# Altium integrated library Atmel Industry Standard SPLD.IntLib: 198 symbols (part 3 of 6)
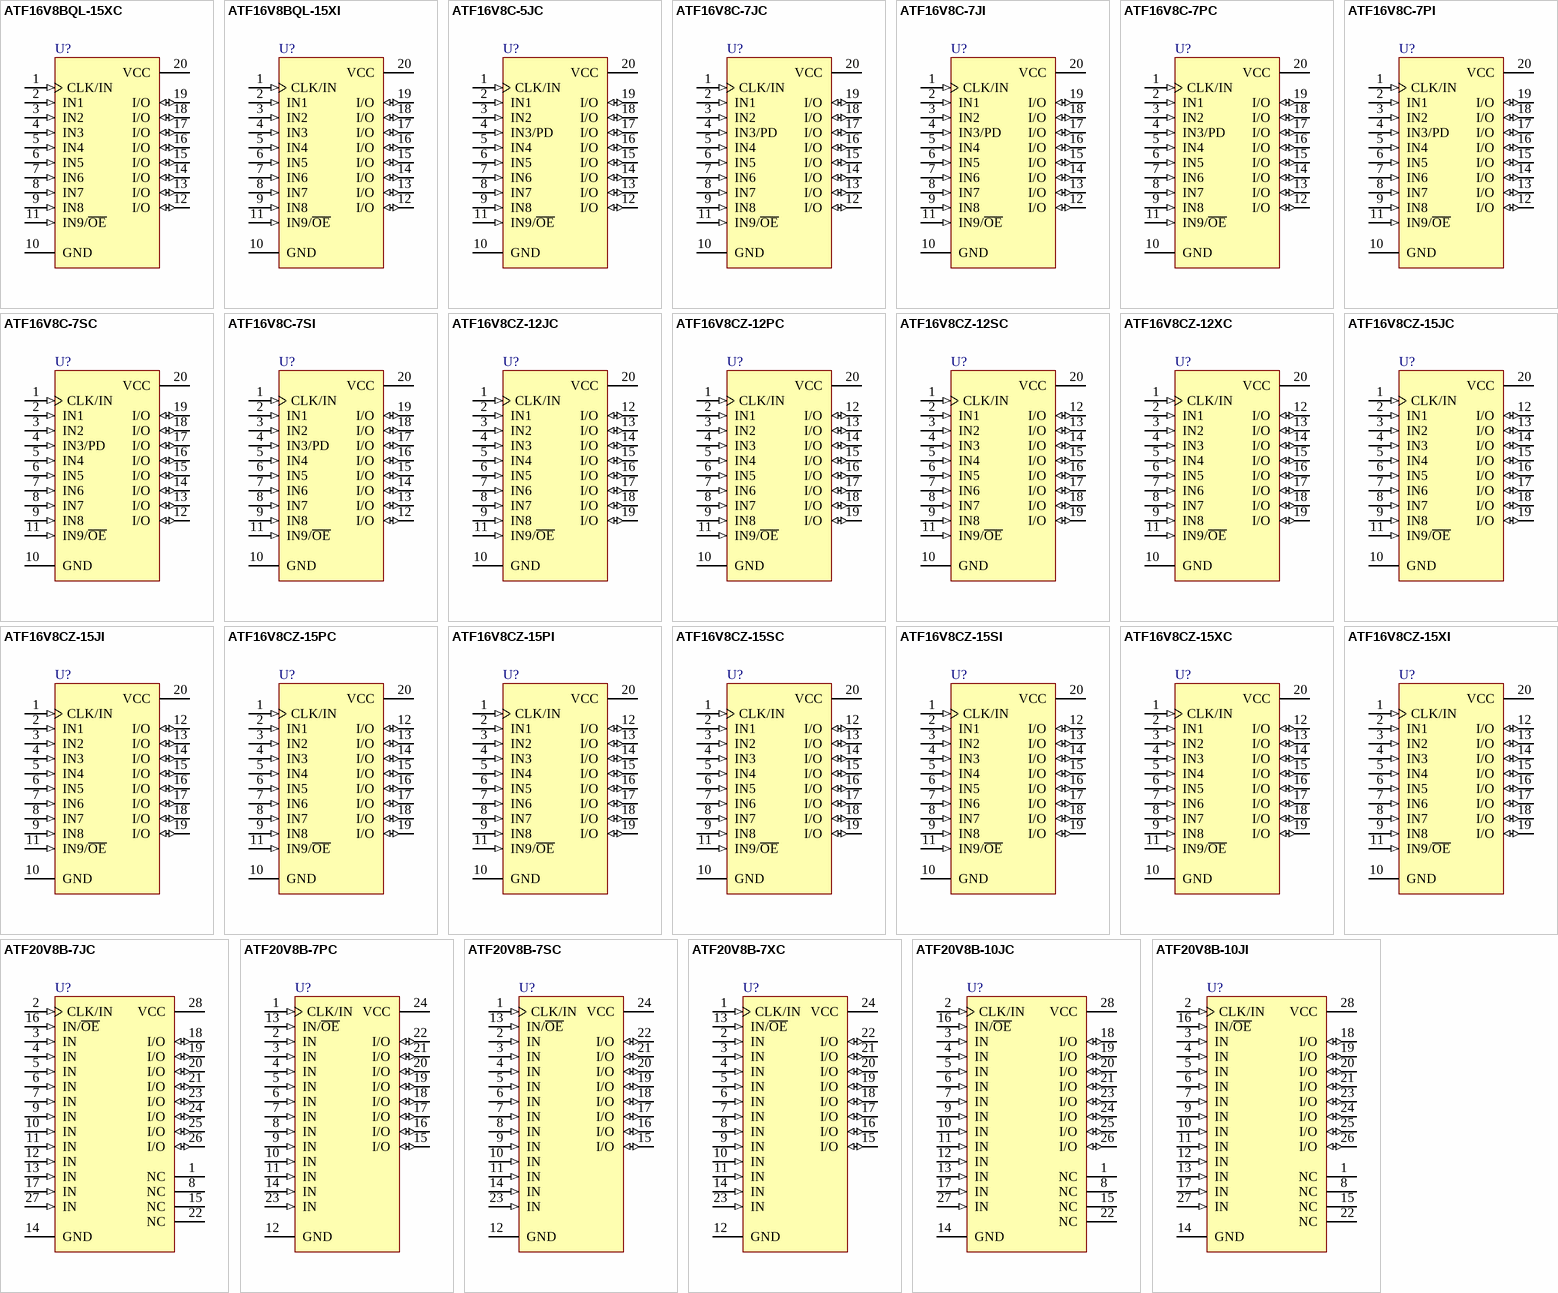
[diagram p9: symbols ATF16V8BQL-15XC to ATF20V8B-10JI]

## ATF16V8CZ-12XC
designator U?
ATF16V8CZ 5.0V Industry Standard SPLD, 20-lead TSSOP, Speed Grade 12, Commercial Grade; Published: 15-Apr-2002; LatestRevisionDate: 04-Mar-2005; LatestRevisionNote: Stylized 3D Model Added.; DatasheetVersion: Rev. 0453F-08/99; PackageVersion: revC, Oct-2003; PackageReference: 20X; Publisher: Altium Limited; PackageDescription: 20-lead, 4.4 mm Body Width, Plastic Thin Shrink Small Outline Package (TSSOP); Supplier 1: Digi-Key; Supplier Part Number 1: ATF16V8CZ-12XC-ND; Supplier 2: Mouser; Supplier Part Number 2: 556-ATF16V8CZ-12XC; ComponentLink1Description: Manufacturer Link; ComponentLink1URL: http://www.atmel.com/products/pld/default.asp; ComponentLink2Description: Datasheet; ComponentLink2URL: http://www.atmel.com/dyn/resources/prod_documents/doc0453.pdf; ComponentLink3Description: Atmel.com Home; ComponentLink3URL: http://www.atmel.com
footprint 20X_N (TSOP, 20-Leads, Body 6.5x4.4mm, Pitch 0.65mm, IPC Medium Density)
footprint 20X_L (TSOP, 20-Leads, Body 6.5x4.4mm, Pitch 0.65mm, IPC High Density)
footprint 20X_M (TSOP, 20-Leads, Body 6.5x4.4mm, Pitch 0.65mm, IPC Low Density)
pins: 1 CLK/IN (in), 2 IN1 (in), 3 IN2 (in), 4 IN3 (in), 5 IN4 (in), 6 IN5 (in), 7 IN6 (in), 8 IN7 (in), 9 IN8 (in), 10 GND (power), 11 IN9/~{OE} (in), 12 I/O (io), 13 I/O (io), 14 I/O (io), 15 I/O (io), 16 I/O (io), 17 I/O (io), 18 I/O (io), 19 I/O (io), 20 VCC (power)

## ATF16V8CZ-15JC
designator U?
ATF16V8CZ 5.0V Industry Standard SPLD, 20-lead PLCC, Speed Grade 15, Commercial Grade; Published: 15-Apr-2002; LatestRevisionDate: 13-Apr-2006; LatestRevisionNote: IPC-7351 Footprint Added.; DatasheetVersion: Rev. 0453F-08/99; PackageVersion: Aug-1999; PackageReference: 20J; Publisher: Altium Limited; PackageDescription: 20-Pin Leaded Chip Carrier 1.27 mm Pitch; Supplier 1: Digi-Key; Supplier Part Number 1: ATF16V8CZ-15JC-ND; Supplier 2: Mouser; Supplier Part Number 2: 556-ATF16V8CZ-15JC; Code_JEDEC: MS-018-AA; Code_IPC: PLCC-20; ComponentLink1Description: Manufacturer Link; ComponentLink1URL: http://www.atmel.com/products/pld/default.asp; ComponentLink2Description: Datasheet; ComponentLink2URL: http://www.atmel.com/dyn/resources/prod_documents/doc0453.pdf; ComponentLink3Description: Atmel.com Home; ComponentLink3URL: http://www.atmel.com
footprint 20J_N (Leaded Chip Carrier, 20-Leads, Body 9x9mm, Pitch 1.27mm, IPC Medium Density)
footprint 20J_L (Leaded Chip Carrier, 20-Leads, Body 9x9mm, Pitch 1.27mm, IPC High Density)
footprint 20J_M (Leaded Chip Carrier, 20-Leads, Body 9x9mm, Pitch 1.27mm, IPC Low Density)
pins: 1 CLK/IN (in), 2 IN1 (in), 3 IN2 (in), 4 IN3 (in), 5 IN4 (in), 6 IN5 (in), 7 IN6 (in), 8 IN7 (in), 9 IN8 (in), 10 GND (power), 11 IN9/~{OE} (in), 12 I/O (io), 13 I/O (io), 14 I/O (io), 15 I/O (io), 16 I/O (io), 17 I/O (io), 18 I/O (io), 19 I/O (io), 20 VCC (power)

## ATF16V8CZ-15JI
designator U?
ATF16V8CZ 5.0V Industry Standard SPLD, 20-lead PLCC, Speed Grade 15, Industrial Grade; Published: 15-Apr-2002; LatestRevisionDate: 13-Apr-2006; LatestRevisionNote: IPC-7351 Footprint Added.; DatasheetVersion: Rev. 0453F-08/99; PackageVersion: Aug-1999; PackageReference: 20J; Publisher: Altium Limited; PackageDescription: 20-Pin Leaded Chip Carrier 1.27 mm Pitch; Supplier 1: Digi-Key; Supplier Part Number 1: ATF16V8CZ-15JI-ND; Supplier 2: Mouser; Supplier Part Number 2: 556-ATF16V8CZ-15JI; Code_JEDEC: MS-018-AA; Code_IPC: PLCC-20; ComponentLink1Description: Manufacturer Link; ComponentLink1URL: http://www.atmel.com/products/pld/default.asp; ComponentLink2Description: Datasheet; ComponentLink2URL: http://www.atmel.com/dyn/resources/prod_documents/doc0453.pdf; ComponentLink3Description: Atmel.com Home; ComponentLink3URL: http://www.atmel.com
footprint 20J_N (Leaded Chip Carrier, 20-Leads, Body 9x9mm, Pitch 1.27mm, IPC Medium Density)
footprint 20J_L (Leaded Chip Carrier, 20-Leads, Body 9x9mm, Pitch 1.27mm, IPC High Density)
footprint 20J_M (Leaded Chip Carrier, 20-Leads, Body 9x9mm, Pitch 1.27mm, IPC Low Density)
pins: 1 CLK/IN (in), 2 IN1 (in), 3 IN2 (in), 4 IN3 (in), 5 IN4 (in), 6 IN5 (in), 7 IN6 (in), 8 IN7 (in), 9 IN8 (in), 10 GND (power), 11 IN9/~{OE} (in), 12 I/O (io), 13 I/O (io), 14 I/O (io), 15 I/O (io), 16 I/O (io), 17 I/O (io), 18 I/O (io), 19 I/O (io), 20 VCC (power)

## ATF16V8CZ-15PC
designator U?
ATF16V8CZ 5.0V Industry Standard SPLD, 20-lead PDIP, Speed Grade 15, Commercial Grade; Published: 15-Apr-2002; LatestRevisionDate: 04-Mar-2005; LatestRevisionNote: Stylized 3D Model Added.; DatasheetVersion: Rev. 0453F-08/99; PackageVersion: revC, Jan-2004; PackageReference: 20P3; Publisher: Altium Limited; PackageDescription: 20-lead (0.300"/7.62mm Wide) Plastic Dual Inline Package (PDIP); Supplier 1: Digi-Key; Supplier Part Number 1: ATF16V8CZ-15PC-ND; Supplier 2: Mouser; Supplier Part Number 2: 556-ATF16V8CZ15PC; Code_JEDEC: MS-001-AD; ComponentLink1Description: Manufacturer Link; ComponentLink1URL: http://www.atmel.com/products/pld/default.asp; ComponentLink2Description: Datasheet; ComponentLink2URL: http://www.atmel.com/dyn/resources/prod_documents/doc0453.pdf; ComponentLink3Description: Atmel.com Home; ComponentLink3URL: http://www.atmel.com
footprint 20P3 (DIP, 20-Leads, Row Spacing 7.62mm, Pitch 2.54mm, Body 25.9x6.61mm)
pins: 1 CLK/IN (in), 2 IN1 (in), 3 IN2 (in), 4 IN3 (in), 5 IN4 (in), 6 IN5 (in), 7 IN6 (in), 8 IN7 (in), 9 IN8 (in), 10 GND (power), 11 IN9/~{OE} (in), 12 I/O (io), 13 I/O (io), 14 I/O (io), 15 I/O (io), 16 I/O (io), 17 I/O (io), 18 I/O (io), 19 I/O (io), 20 VCC (power)

## ATF16V8CZ-15PI
designator U?
ATF16V8CZ 5.0V Industry Standard SPLD, 20-lead PDIP, Speed Grade 15, Industrial Grade; Published: 15-Apr-2002; LatestRevisionDate: 04-Mar-2005; LatestRevisionNote: Stylized 3D Model Added.; DatasheetVersion: Rev. 0453F-08/99; PackageVersion: revC, Jan-2004; PackageReference: 20P3; Publisher: Altium Limited; PackageDescription: 20-lead (0.300"/7.62mm Wide) Plastic Dual Inline Package (PDIP); Supplier 1: Digi-Key; Supplier Part Number 1: ATF16V8CZ-15PI-ND; Supplier 2: Mouser; Supplier Part Number 2: 556-ATF16V8CZ-15PI; Code_JEDEC: MS-001-AD; ComponentLink1Description: Manufacturer Link; ComponentLink1URL: http://www.atmel.com/products/pld/default.asp; ComponentLink2Description: Datasheet; ComponentLink2URL: http://www.atmel.com/dyn/resources/prod_documents/doc0453.pdf; ComponentLink3Description: Atmel.com Home; ComponentLink3URL: http://www.atmel.com
footprint 20P3 (DIP, 20-Leads, Row Spacing 7.62mm, Pitch 2.54mm, Body 25.9x6.61mm)
pins: 1 CLK/IN (in), 2 IN1 (in), 3 IN2 (in), 4 IN3 (in), 5 IN4 (in), 6 IN5 (in), 7 IN6 (in), 8 IN7 (in), 9 IN8 (in), 10 GND (power), 11 IN9/~{OE} (in), 12 I/O (io), 13 I/O (io), 14 I/O (io), 15 I/O (io), 16 I/O (io), 17 I/O (io), 18 I/O (io), 19 I/O (io), 20 VCC (power)

## ATF16V8CZ-15SC
designator U?
ATF16V8CZ 5.0V Industry Standard SPLD, 20-lead SOIC, Speed Grade 15, Commercial Grade; Published: 15-Apr-2002; LatestRevisionDate: 13-Apr-2006; LatestRevisionNote: IPC-7351 Footprint Added.; DatasheetVersion: Rev. 0453F-08/99; PackageVersion: revA, Jan-2002; PackageReference: 20S; Publisher: Altium Limited; PackageDescription: 20-lead, 0.300" Wide Body, Plastic Gull Wing Small Outline Package (SOIC); Supplier 1: Digi-Key; Supplier Part Number 1: ATF16V8CZ-15SC-ND; Supplier 2: Mouser; Supplier Part Number 2: 556-AF16V8CZ15SC; Code_JEDEC: MS-013-AC; Code_IPC: SOIC127P1030-20; ComponentLink1Description: Manufacturer Link; ComponentLink1URL: http://www.atmel.com/products/pld/default.asp; ComponentLink2Description: Datasheet; ComponentLink2URL: http://www.atmel.com/dyn/resources/prod_documents/doc0453.pdf; ComponentLink3Description: Atmel.com Home; ComponentLink3URL: http://www.atmel.com
footprint 20S_N (SOIC, 20-Leads, Body 12.8x7.5mm, Pitch 1.27mm, IPC Medium Density)
footprint 20S_L (SOIC, 20-Leads, Body 12.8x7.5mm, Pitch 1.27mm, IPC High Density)
footprint 20S_M (SOIC, 20-Leads, Body 12.8x7.5mm, Pitch 1.27mm, IPC Low Density)
pins: 1 CLK/IN (in), 2 IN1 (in), 3 IN2 (in), 4 IN3 (in), 5 IN4 (in), 6 IN5 (in), 7 IN6 (in), 8 IN7 (in), 9 IN8 (in), 10 GND (power), 11 IN9/~{OE} (in), 12 I/O (io), 13 I/O (io), 14 I/O (io), 15 I/O (io), 16 I/O (io), 17 I/O (io), 18 I/O (io), 19 I/O (io), 20 VCC (power)

## ATF16V8CZ-15SI
designator U?
ATF16V8CZ 5.0V Industry Standard SPLD, 20-lead SOIC, Speed Grade 15, Industrial Grade; Published: 15-Apr-2002; LatestRevisionDate: 13-Apr-2006; LatestRevisionNote: IPC-7351 Footprint Added.; DatasheetVersion: Rev. 0453F-08/99; PackageVersion: revA, Jan-2002; PackageReference: 20S; Publisher: Altium Limited; PackageDescription: 20-lead, 0.300" Wide Body, Plastic Gull Wing Small Outline Package (SOIC); Supplier 1: Digi-Key; Supplier Part Number 1: ATF16V8CZ-15SI-ND; Supplier 2: Mouser; Supplier Part Number 2: 556-ATF16V8CZ-15SI; Code_JEDEC: MS-013-AC; Code_IPC: SOIC127P1030-20; ComponentLink1Description: Manufacturer Link; ComponentLink1URL: http://www.atmel.com/products/pld/default.asp; ComponentLink2Description: Datasheet; ComponentLink2URL: http://www.atmel.com/dyn/resources/prod_documents/doc0453.pdf; ComponentLink3Description: Atmel.com Home; ComponentLink3URL: http://www.atmel.com
footprint 20S_N (SOIC, 20-Leads, Body 12.8x7.5mm, Pitch 1.27mm, IPC Medium Density)
footprint 20S_L (SOIC, 20-Leads, Body 12.8x7.5mm, Pitch 1.27mm, IPC High Density)
footprint 20S_M (SOIC, 20-Leads, Body 12.8x7.5mm, Pitch 1.27mm, IPC Low Density)
pins: 1 CLK/IN (in), 2 IN1 (in), 3 IN2 (in), 4 IN3 (in), 5 IN4 (in), 6 IN5 (in), 7 IN6 (in), 8 IN7 (in), 9 IN8 (in), 10 GND (power), 11 IN9/~{OE} (in), 12 I/O (io), 13 I/O (io), 14 I/O (io), 15 I/O (io), 16 I/O (io), 17 I/O (io), 18 I/O (io), 19 I/O (io), 20 VCC (power)

## ATF16V8CZ-15XC
designator U?
ATF16V8CZ 5.0V Industry Standard SPLD, 20-lead TSSOP, Speed Grade 15, Commercial Grade; Published: 15-Apr-2002; LatestRevisionDate: 04-Mar-2005; LatestRevisionNote: Stylized 3D Model Added.; DatasheetVersion: Rev. 0453F-08/99; PackageVersion: revC, Oct-2003; PackageReference: 20X; Publisher: Altium Limited; PackageDescription: 20-lead, 4.4 mm Body Width, Plastic Thin Shrink Small Outline Package (TSSOP); Supplier 1: Digi-Key; Supplier Part Number 1: ATF16V8CZ-15XC-ND; Supplier 2: Mouser; Supplier Part Number 2: 556-ATF16V8CZ-15XC; ComponentLink1Description: Manufacturer Link; ComponentLink1URL: http://www.atmel.com/products/pld/default.asp; ComponentLink2Description: Datasheet; ComponentLink2URL: http://www.atmel.com/dyn/resources/prod_documents/doc0453.pdf; ComponentLink3Description: Atmel.com Home; ComponentLink3URL: http://www.atmel.com
footprint 20X_N (TSOP, 20-Leads, Body 6.5x4.4mm, Pitch 0.65mm, IPC Medium Density)
footprint 20X_L (TSOP, 20-Leads, Body 6.5x4.4mm, Pitch 0.65mm, IPC High Density)
footprint 20X_M (TSOP, 20-Leads, Body 6.5x4.4mm, Pitch 0.65mm, IPC Low Density)
pins: 1 CLK/IN (in), 2 IN1 (in), 3 IN2 (in), 4 IN3 (in), 5 IN4 (in), 6 IN5 (in), 7 IN6 (in), 8 IN7 (in), 9 IN8 (in), 10 GND (power), 11 IN9/~{OE} (in), 12 I/O (io), 13 I/O (io), 14 I/O (io), 15 I/O (io), 16 I/O (io), 17 I/O (io), 18 I/O (io), 19 I/O (io), 20 VCC (power)

## ATF16V8CZ-15XI
designator U?
ATF16V8CZ 5.0V Industry Standard SPLD, 20-lead TSSOP, Speed Grade 15, Industrial Grade; Published: 15-Apr-2002; LatestRevisionDate: 04-Mar-2005; LatestRevisionNote: Stylized 3D Model Added.; DatasheetVersion: Rev. 0453F-08/99; PackageVersion: revC, Oct-2003; PackageReference: 20X; Publisher: Altium Limited; PackageDescription: 20-lead, 4.4 mm Body Width, Plastic Thin Shrink Small Outline Package (TSSOP); ComponentLink1Description: Manufacturer Link; ComponentLink1URL: http://www.atmel.com/products/pld/default.asp; ComponentLink2Description: Datasheet; ComponentLink2URL: http://www.atmel.com/dyn/resources/prod_documents/doc0453.pdf; ComponentLink3Description: Atmel.com Home; ComponentLink3URL: http://www.atmel.com
footprint 20X_N (TSOP, 20-Leads, Body 6.5x4.4mm, Pitch 0.65mm, IPC Medium Density)
footprint 20X_L (TSOP, 20-Leads, Body 6.5x4.4mm, Pitch 0.65mm, IPC High Density)
footprint 20X_M (TSOP, 20-Leads, Body 6.5x4.4mm, Pitch 0.65mm, IPC Low Density)
pins: 1 CLK/IN (in), 2 IN1 (in), 3 IN2 (in), 4 IN3 (in), 5 IN4 (in), 6 IN5 (in), 7 IN6 (in), 8 IN7 (in), 9 IN8 (in), 10 GND (power), 11 IN9/~{OE} (in), 12 I/O (io), 13 I/O (io), 14 I/O (io), 15 I/O (io), 16 I/O (io), 17 I/O (io), 18 I/O (io), 19 I/O (io), 20 VCC (power)

## ATF20V8B-7JC
designator U?
ATF20V8B 5.0V Industry Standard SPLD, 28-lead PLCC, Speed Grade 7.5, Commercial Grade; Note: Pins 1, 8, 15 and 22 are not internally connected.; Published: 24-Nov-2000; LatestRevisionDate: 13-Apr-2006; LatestRevisionNote: IPC-7351 Footprint Added.; DatasheetVersion: Rev. 0407G-06/99; PackageVersion: 1993; PackageReference: 28J; Publisher: Altium Limited; PackageDescription: 28-Pin Leaded Chip Carrier 1.27 mm Pitch; Supplier 1: Digi-Key; Supplier Part Number 1: ATF20V8B-7JC-ND; Supplier 2: Mouser; Supplier Part Number 2: 556-ATF20V8B-7JC; Code_JEDEC: MS-018-AB; Code_IPC: PLCC-28; ComponentLink1Description: Manufacturer Link; ComponentLink1URL: http://www.atmel.com/products/pld/default.asp; ComponentLink2Description: Datasheet; ComponentLink2URL: http://www.atmel.com/dyn/resources/prod_documents/DOC0407.PDF; ComponentLink3Description: Atmel.com Home; ComponentLink3URL: http://www.atmel.com
footprint 28J_N (Leaded Chip Carrier, 28-Leads, Body 11.5x11.5mm, Pitch 1.27mm, IPC Medium Density)
footprint 28J_L (Leaded Chip Carrier, 28-Leads, Body 11.5x11.5mm, Pitch 1.27mm, IPC High Density)
footprint 28J_M (Leaded Chip Carrier, 28-Leads, Body 11.5x11.5mm, Pitch 1.27mm, IPC Low Density)
pins: 1 NC, 2 CLK/IN (in), 3 IN (in), 4 IN (in), 5 IN (in), 6 IN (in), 7 IN (in), 8 NC, 9 IN (in), 10 IN (in), 11 IN (in), 12 IN (in), 13 IN (in), 14 GND (power), 15 NC, 16 IN/~{OE} (in), 17 IN (in), 18 I/O (io), 19 I/O (io), 20 I/O (io), 21 I/O (io), 22 NC, 23 I/O (io), 24 I/O (io), 25 I/O (io), 26 I/O (io), 27 IN (in), 28 VCC (power)

## ATF20V8B-7PC
designator U?
ATF20V8B 5.0V Industry Standard SPLD, 24-lead PDIP, Speed Grade 7.5, Commercial Grade; Published: 24-Nov-2000; LatestRevisionDate: 04-Mar-2005; LatestRevisionNote: Stylized 3D Model Added.; DatasheetVersion: Rev. 0407G-06/99; PackageVersion: 1993; PackageReference: 24P3; Publisher: Altium Limited; PackageDescription: DIP, 24-Pin, Row Spacing 7.62 mm, Pitch 2.54 mm; Supplier 1: Digi-Key; Supplier Part Number 1: ATF20V8B-7PC-ND; Supplier 2: Mouser; Supplier Part Number 2: 556-AF20V8B7PC; Code_JEDEC: MS-001-AF; ComponentLink1Description: Manufacturer Link; ComponentLink1URL: http://www.atmel.com/products/pld/default.asp; ComponentLink2Description: Datasheet; ComponentLink2URL: http://www.atmel.com/dyn/resources/prod_documents/DOC0407.PDF; ComponentLink3Description: Atmel.com Home; ComponentLink3URL: http://www.atmel.com
footprint 24P3 (DIP, 24-Leads, Row Spacing 7.62mm, Pitch 2.54mm, Body 32x6.56mm)
pins: 1 CLK/IN (in), 2 IN (in), 3 IN (in), 4 IN (in), 5 IN (in), 6 IN (in), 7 IN (in), 8 IN (in), 9 IN (in), 10 IN (in), 11 IN (in), 12 GND (power), 13 IN/~{OE} (in), 14 IN (in), 15 I/O (io), 16 I/O (io), 17 I/O (io), 18 I/O (io), 19 I/O (io), 20 I/O (io), 21 I/O (io), 22 I/O (io), 23 IN (in), 24 VCC (power)

## ATF20V8B-7SC
designator U?
ATF20V8B 5.0V Industry Standard SPLD, 24-lead SOIC, Speed Grade 7.5, Commercial Grade; Published: 24-Nov-2000; LatestRevisionDate: 13-Apr-2006; LatestRevisionNote: IPC-7351 Footprint Added.; DatasheetVersion: Rev. 0407G-06/99; PackageVersion: 1993; PackageReference: 24S; Publisher: Altium Limited; PackageDescription: 24-Pin Small Outline Integrated Circuit 1.27 mm Pitch; Supplier 1: Digi-Key; Supplier Part Number 1: ATF20V8B-7SC-ND; Supplier 2: Mouser; Supplier Part Number 2: 556-AF20V8B7SC; ComponentLink1Description: Manufacturer Link; ComponentLink1URL: http://www.atmel.com/products/pld/default.asp; ComponentLink2Description: Datasheet; ComponentLink2URL: http://www.atmel.com/dyn/resources/prod_documents/DOC0407.PDF; ComponentLink3Description: Atmel.com Home; ComponentLink3URL: http://www.atmel.com
footprint 24S_N (SOIC, 24-Leads, Body 15.4x7.5mm, Pitch 1.27mm, IPC Medium Density)
footprint 24S_L (SOIC, 24-Leads, Body 15.4x7.5mm, Pitch 1.27mm, IPC High Density)
footprint 24S_M (SOIC, 24-Leads, Body 15.4x7.5mm, Pitch 1.27mm, IPC Low Density)
pins: 1 CLK/IN (in), 2 IN (in), 3 IN (in), 4 IN (in), 5 IN (in), 6 IN (in), 7 IN (in), 8 IN (in), 9 IN (in), 10 IN (in), 11 IN (in), 12 GND (power), 13 IN/~{OE} (in), 14 IN (in), 15 I/O (io), 16 I/O (io), 17 I/O (io), 18 I/O (io), 19 I/O (io), 20 I/O (io), 21 I/O (io), 22 I/O (io), 23 IN (in), 24 VCC (power)

## ATF20V8B-7XC
designator U?
ATF20V8B 5.0V Industry Standard SPLD, 24-lead TSSOP, Speed Grade 7.5, Commercial Grade; Published: 17-Dec-2003; LatestRevisionDate: 04-Mar-2005; LatestRevisionNote: Stylized 3D Model Added.; DatasheetVersion: Rev. 0407G-06/99; PackageVersion: revA, Apr-2001; PackageReference: 24X; Publisher: Altium Limited; PackageDescription: 24-Pin Thin Small Outline Package 0.65 mm Pitch; ComponentLink1Description: Manufacturer Link; ComponentLink1URL: http://www.atmel.com/products/pld/default.asp; ComponentLink2Description: Datasheet; ComponentLink2URL: http://www.atmel.com/dyn/resources/prod_documents/DOC0407.PDF; ComponentLink3Description: Atmel.com Home; ComponentLink3URL: http://www.atmel.com
footprint 24X_N (TSOP, 24-Leads, Body 7.8x4.4mm, Pitch 0.65mm, IPC Medium Density)
footprint 24X_L (TSOP, 24-Leads, Body 7.8x4.4mm, Pitch 0.65mm, IPC High Density)
footprint 24X_M (TSOP, 24-Leads, Body 7.8x4.4mm, Pitch 0.65mm, IPC Low Density)
pins: 1 CLK/IN (in), 2 IN (in), 3 IN (in), 4 IN (in), 5 IN (in), 6 IN (in), 7 IN (in), 8 IN (in), 9 IN (in), 10 IN (in), 11 IN (in), 12 GND (power), 13 IN/~{OE} (in), 14 IN (in), 15 I/O (io), 16 I/O (io), 17 I/O (io), 18 I/O (io), 19 I/O (io), 20 I/O (io), 21 I/O (io), 22 I/O (io), 23 IN (in), 24 VCC (power)

## ATF20V8B-10JC
designator U?
ATF20V8B 5.0V Industry Standard SPLD, 28-lead PLCC, Speed Grade 10, Commercial Grade; Note: Pins 1, 8, 15 and 22 are not internally connected.; Published: 24-Nov-2000; LatestRevisionDate: 13-Apr-2006; LatestRevisionNote: IPC-7351 Footprint Added.; DatasheetVersion: Rev. 0407G-06/99; PackageVersion: 1993; PackageReference: 28J; Publisher: Altium Limited; PackageDescription: 28-Pin Leaded Chip Carrier 1.27 mm Pitch; Supplier 1: Digi-Key; Supplier Part Number 1: ATF20V8B-10JC-ND; Supplier 2: Mouser; Supplier Part Number 2: 556-ATF20V8B-10JC; Code_JEDEC: MS-018-AB; Code_IPC: PLCC-28; ComponentLink1Description: Manufacturer Link; ComponentLink1URL: http://www.atmel.com/products/pld/default.asp; ComponentLink2Description: Datasheet; ComponentLink2URL: http://www.atmel.com/dyn/resources/prod_documents/DOC0407.PDF; ComponentLink3Description: Atmel.com Home; ComponentLink3URL: http://www.atmel.com
footprint 28J_N (Leaded Chip Carrier, 28-Leads, Body 11.5x11.5mm, Pitch 1.27mm, IPC Medium Density)
footprint 28J_L (Leaded Chip Carrier, 28-Leads, Body 11.5x11.5mm, Pitch 1.27mm, IPC High Density)
footprint 28J_M (Leaded Chip Carrier, 28-Leads, Body 11.5x11.5mm, Pitch 1.27mm, IPC Low Density)
pins: 1 NC, 2 CLK/IN (in), 3 IN (in), 4 IN (in), 5 IN (in), 6 IN (in), 7 IN (in), 8 NC, 9 IN (in), 10 IN (in), 11 IN (in), 12 IN (in), 13 IN (in), 14 GND (power), 15 NC, 16 IN/~{OE} (in), 17 IN (in), 18 I/O (io), 19 I/O (io), 20 I/O (io), 21 I/O (io), 22 NC, 23 I/O (io), 24 I/O (io), 25 I/O (io), 26 I/O (io), 27 IN (in), 28 VCC (power)

## ATF20V8B-10JI
designator U?
ATF20V8B 5.0V Industry Standard SPLD, 28-lead PLCC, Speed Grade 10, Industrial Grade; Note: Pins 1, 8, 15 and 22 are not internally connected.; Published: 24-Nov-2000; LatestRevisionDate: 13-Apr-2006; LatestRevisionNote: IPC-7351 Footprint Added.; DatasheetVersion: Rev. 0407G-06/99; PackageVersion: 1993; PackageReference: 28J; Publisher: Altium Limited; PackageDescription: 28-Pin Leaded Chip Carrier 1.27 mm Pitch; Supplier 1: Digi-Key; Supplier Part Number 1: ATF20V8B-10JI-ND; Supplier 2: Mouser; Supplier Part Number 2: 556-ATF20V8B-10JI; Code_JEDEC: MS-018-AB; Code_IPC: PLCC-28; ComponentLink1Description: Manufacturer Link; ComponentLink1URL: http://www.atmel.com/products/pld/default.asp; ComponentLink2Description: Datasheet; ComponentLink2URL: http://www.atmel.com/dyn/resources/prod_documents/DOC0407.PDF; ComponentLink3Description: Atmel.com Home; ComponentLink3URL: http://www.atmel.com
footprint 28J_N (Leaded Chip Carrier, 28-Leads, Body 11.5x11.5mm, Pitch 1.27mm, IPC Medium Density)
footprint 28J_L (Leaded Chip Carrier, 28-Leads, Body 11.5x11.5mm, Pitch 1.27mm, IPC High Density)
footprint 28J_M (Leaded Chip Carrier, 28-Leads, Body 11.5x11.5mm, Pitch 1.27mm, IPC Low Density)
pins: 1 NC, 2 CLK/IN (in), 3 IN (in), 4 IN (in), 5 IN (in), 6 IN (in), 7 IN (in), 8 NC, 9 IN (in), 10 IN (in), 11 IN (in), 12 IN (in), 13 IN (in), 14 GND (power), 15 NC, 16 IN/~{OE} (in), 17 IN (in), 18 I/O (io), 19 I/O (io), 20 I/O (io), 21 I/O (io), 22 NC, 23 I/O (io), 24 I/O (io), 25 I/O (io), 26 I/O (io), 27 IN (in), 28 VCC (power)

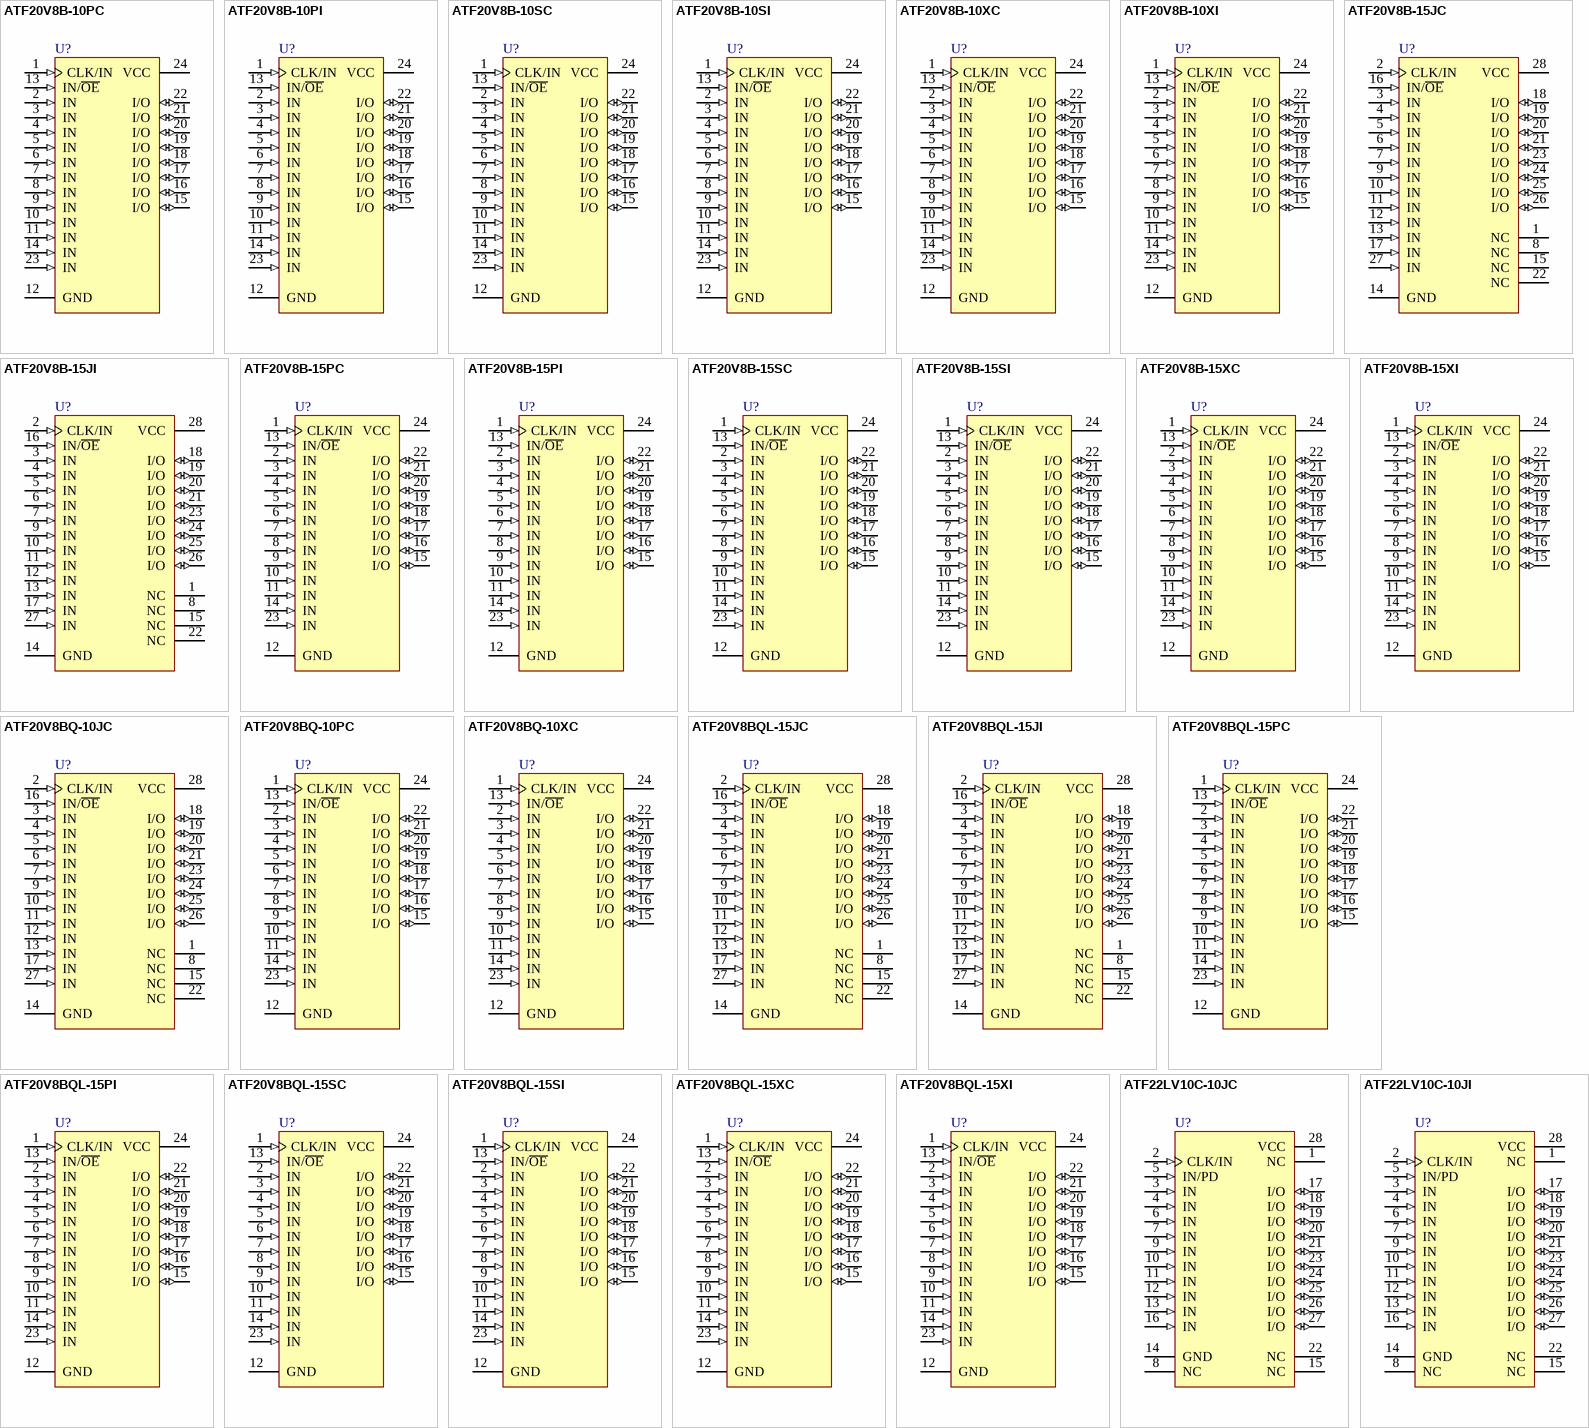
[diagram p3: symbols ATF20V8B-10PC to ATF22LV10C-10JI]

## ATF20V8B-10PC
designator U?
ATF20V8B 5.0V Industry Standard SPLD, 24-lead PDIP, Speed Grade 10, Commercial Grade; Published: 24-Nov-2000; LatestRevisionDate: 04-Mar-2005; LatestRevisionNote: Stylized 3D Model Added.; DatasheetVersion: Rev. 0407G-06/99; PackageVersion: 1993; PackageReference: 24P3; Publisher: Altium Limited; PackageDescription: DIP, 24-Pin, Row Spacing 7.62 mm, Pitch 2.54 mm; Supplier 1: Digi-Key; Supplier Part Number 1: ATF20V8B-10PC-ND; Supplier 2: Mouser; Supplier Part Number 2: 556-ATF20V8B10PC; Code_JEDEC: MS-001-AF; ComponentLink1Description: Manufacturer Link; ComponentLink1URL: http://www.atmel.com/products/pld/default.asp; ComponentLink2Description: Datasheet; ComponentLink2URL: http://www.atmel.com/dyn/resources/prod_documents/DOC0407.PDF; ComponentLink3Description: Atmel.com Home; ComponentLink3URL: http://www.atmel.com
footprint 24P3 (DIP, 24-Leads, Row Spacing 7.62mm, Pitch 2.54mm, Body 32x6.56mm)
pins: 1 CLK/IN (in), 2 IN (in), 3 IN (in), 4 IN (in), 5 IN (in), 6 IN (in), 7 IN (in), 8 IN (in), 9 IN (in), 10 IN (in), 11 IN (in), 12 GND (power), 13 IN/~{OE} (in), 14 IN (in), 15 I/O (io), 16 I/O (io), 17 I/O (io), 18 I/O (io), 19 I/O (io), 20 I/O (io), 21 I/O (io), 22 I/O (io), 23 IN (in), 24 VCC (power)

## ATF20V8B-10PI
designator U?
ATF20V8B 5.0V Industry Standard SPLD, 24-lead PDIP, Speed Grade 10, Industrial Grade; Published: 24-Nov-2000; LatestRevisionDate: 04-Mar-2005; LatestRevisionNote: Stylized 3D Model Added.; DatasheetVersion: Rev. 0407G-06/99; PackageVersion: 1993; PackageReference: 24P3; Publisher: Altium Limited; PackageDescription: DIP, 24-Pin, Row Spacing 7.62 mm, Pitch 2.54 mm; Supplier 1: Digi-Key; Supplier Part Number 1: ATF20V8B-10PI-ND; Supplier 2: Mouser; Supplier Part Number 2: 556-ATF20V8B-10PI; Code_JEDEC: MS-001-AF; ComponentLink1Description: Manufacturer Link; ComponentLink1URL: http://www.atmel.com/products/pld/default.asp; ComponentLink2Description: Datasheet; ComponentLink2URL: http://www.atmel.com/dyn/resources/prod_documents/DOC0407.PDF; ComponentLink3Description: Atmel.com Home; ComponentLink3URL: http://www.atmel.com
footprint 24P3 (DIP, 24-Leads, Row Spacing 7.62mm, Pitch 2.54mm, Body 32x6.56mm)
pins: 1 CLK/IN (in), 2 IN (in), 3 IN (in), 4 IN (in), 5 IN (in), 6 IN (in), 7 IN (in), 8 IN (in), 9 IN (in), 10 IN (in), 11 IN (in), 12 GND (power), 13 IN/~{OE} (in), 14 IN (in), 15 I/O (io), 16 I/O (io), 17 I/O (io), 18 I/O (io), 19 I/O (io), 20 I/O (io), 21 I/O (io), 22 I/O (io), 23 IN (in), 24 VCC (power)

## ATF20V8B-10SC
designator U?
ATF20V8B 5.0V Industry Standard SPLD, 24-lead SOIC, Speed Grade 10, Commercial Grade; Published: 24-Nov-2000; LatestRevisionDate: 13-Apr-2006; LatestRevisionNote: IPC-7351 Footprint Added.; DatasheetVersion: Rev. 0407G-06/99; PackageVersion: 1993; PackageReference: 24S; Publisher: Altium Limited; PackageDescription: 24-Pin Small Outline Integrated Circuit 1.27 mm Pitch; Supplier 1: Digi-Key; Supplier Part Number 1: ATF20V8B-10SC-ND; Supplier 2: Mouser; Supplier Part Number 2: 556-AF20V8B10SC; ComponentLink1Description: Manufacturer Link; ComponentLink1URL: http://www.atmel.com/products/pld/default.asp; ComponentLink2Description: Datasheet; ComponentLink2URL: http://www.atmel.com/dyn/resources/prod_documents/DOC0407.PDF; ComponentLink3Description: Atmel.com Home; ComponentLink3URL: http://www.atmel.com
footprint 24S_N (SOIC, 24-Leads, Body 15.4x7.5mm, Pitch 1.27mm, IPC Medium Density)
footprint 24S_L (SOIC, 24-Leads, Body 15.4x7.5mm, Pitch 1.27mm, IPC High Density)
footprint 24S_M (SOIC, 24-Leads, Body 15.4x7.5mm, Pitch 1.27mm, IPC Low Density)
pins: 1 CLK/IN (in), 2 IN (in), 3 IN (in), 4 IN (in), 5 IN (in), 6 IN (in), 7 IN (in), 8 IN (in), 9 IN (in), 10 IN (in), 11 IN (in), 12 GND (power), 13 IN/~{OE} (in), 14 IN (in), 15 I/O (io), 16 I/O (io), 17 I/O (io), 18 I/O (io), 19 I/O (io), 20 I/O (io), 21 I/O (io), 22 I/O (io), 23 IN (in), 24 VCC (power)

## ATF20V8B-10SI
designator U?
ATF20V8B 5.0V Industry Standard SPLD, 24-lead SOIC, Speed Grade 10, Industrial Grade; Published: 24-Nov-2000; LatestRevisionDate: 13-Apr-2006; LatestRevisionNote: IPC-7351 Footprint Added.; DatasheetVersion: Rev. 0407G-06/99; PackageVersion: 1993; PackageReference: 24S; Publisher: Altium Limited; PackageDescription: 24-Pin Small Outline Integrated Circuit 1.27 mm Pitch; Supplier 1: Digi-Key; Supplier Part Number 1: ATF20V8B-10SI-ND; Supplier 2: Mouser; Supplier Part Number 2: 556-ATF20V8B-10SI; ComponentLink1Description: Manufacturer Link; ComponentLink1URL: http://www.atmel.com/products/pld/default.asp; ComponentLink2Description: Datasheet; ComponentLink2URL: http://www.atmel.com/dyn/resources/prod_documents/DOC0407.PDF; ComponentLink3Description: Atmel.com Home; ComponentLink3URL: http://www.atmel.com
footprint 24S_N (SOIC, 24-Leads, Body 15.4x7.5mm, Pitch 1.27mm, IPC Medium Density)
footprint 24S_L (SOIC, 24-Leads, Body 15.4x7.5mm, Pitch 1.27mm, IPC High Density)
footprint 24S_M (SOIC, 24-Leads, Body 15.4x7.5mm, Pitch 1.27mm, IPC Low Density)
pins: 1 CLK/IN (in), 2 IN (in), 3 IN (in), 4 IN (in), 5 IN (in), 6 IN (in), 7 IN (in), 8 IN (in), 9 IN (in), 10 IN (in), 11 IN (in), 12 GND (power), 13 IN/~{OE} (in), 14 IN (in), 15 I/O (io), 16 I/O (io), 17 I/O (io), 18 I/O (io), 19 I/O (io), 20 I/O (io), 21 I/O (io), 22 I/O (io), 23 IN (in), 24 VCC (power)

## ATF20V8B-10XC
designator U?
ATF20V8B 5.0V Industry Standard SPLD, 24-lead TSSOP, Speed Grade 10, Commercial Grade; Published: 17-Dec-2003; LatestRevisionDate: 04-Mar-2005; LatestRevisionNote: Stylized 3D Model Added.; DatasheetVersion: Rev. 0407G-06/99; PackageVersion: revA, Apr-2001; PackageReference: 24X; Publisher: Altium Limited; PackageDescription: 24-Pin Thin Small Outline Package 0.65 mm Pitch; ComponentLink1Description: Manufacturer Link; ComponentLink1URL: http://www.atmel.com/products/pld/default.asp; ComponentLink2Description: Datasheet; ComponentLink2URL: http://www.atmel.com/dyn/resources/prod_documents/DOC0407.PDF; ComponentLink3Description: Atmel.com Home; ComponentLink3URL: http://www.atmel.com
footprint 24X_N (TSOP, 24-Leads, Body 7.8x4.4mm, Pitch 0.65mm, IPC Medium Density)
footprint 24X_L (TSOP, 24-Leads, Body 7.8x4.4mm, Pitch 0.65mm, IPC High Density)
footprint 24X_M (TSOP, 24-Leads, Body 7.8x4.4mm, Pitch 0.65mm, IPC Low Density)
pins: 1 CLK/IN (in), 2 IN (in), 3 IN (in), 4 IN (in), 5 IN (in), 6 IN (in), 7 IN (in), 8 IN (in), 9 IN (in), 10 IN (in), 11 IN (in), 12 GND (power), 13 IN/~{OE} (in), 14 IN (in), 15 I/O (io), 16 I/O (io), 17 I/O (io), 18 I/O (io), 19 I/O (io), 20 I/O (io), 21 I/O (io), 22 I/O (io), 23 IN (in), 24 VCC (power)

## ATF20V8B-10XI
designator U?
ATF20V8B 5.0V Industry Standard SPLD, 24-lead TSSOP, Speed Grade 10, Industrial Grade; Published: 17-Dec-2003; LatestRevisionDate: 04-Mar-2005; LatestRevisionNote: Stylized 3D Model Added.; DatasheetVersion: Rev. 0407G-06/99; PackageVersion: revA, Apr-2001; PackageReference: 24X; Publisher: Altium Limited; PackageDescription: 24-Pin Thin Small Outline Package 0.65 mm Pitch; ComponentLink1Description: Manufacturer Link; ComponentLink1URL: http://www.atmel.com/products/pld/default.asp; ComponentLink2Description: Datasheet; ComponentLink2URL: http://www.atmel.com/dyn/resources/prod_documents/DOC0407.PDF; ComponentLink3Description: Atmel.com Home; ComponentLink3URL: http://www.atmel.com
footprint 24X_N (TSOP, 24-Leads, Body 7.8x4.4mm, Pitch 0.65mm, IPC Medium Density)
footprint 24X_L (TSOP, 24-Leads, Body 7.8x4.4mm, Pitch 0.65mm, IPC High Density)
footprint 24X_M (TSOP, 24-Leads, Body 7.8x4.4mm, Pitch 0.65mm, IPC Low Density)
pins: 1 CLK/IN (in), 2 IN (in), 3 IN (in), 4 IN (in), 5 IN (in), 6 IN (in), 7 IN (in), 8 IN (in), 9 IN (in), 10 IN (in), 11 IN (in), 12 GND (power), 13 IN/~{OE} (in), 14 IN (in), 15 I/O (io), 16 I/O (io), 17 I/O (io), 18 I/O (io), 19 I/O (io), 20 I/O (io), 21 I/O (io), 22 I/O (io), 23 IN (in), 24 VCC (power)

## ATF20V8B-15JC
designator U?
ATF20V8B 5.0V Industry Standard SPLD, 28-lead PLCC, Speed Grade 15, Commercial Grade; Note: Pins 1, 8, 15 and 22 are not internally connected.; Published: 24-Nov-2000; LatestRevisionDate: 13-Apr-2006; LatestRevisionNote: IPC-7351 Footprint Added.; DatasheetVersion: Rev. 0407G-06/99; PackageVersion: 1993; PackageReference: 28J; Publisher: Altium Limited; PackageDescription: 28-Pin Leaded Chip Carrier 1.27 mm Pitch; Supplier 1: Digi-Key; Supplier Part Number 1: ATF20V8B-15JC-ND; Supplier 2: Mouser; Supplier Part Number 2: 556-AF20V8B15JC; Code_JEDEC: MS-018-AB; Code_IPC: PLCC-28; ComponentLink1Description: Manufacturer Link; ComponentLink1URL: http://www.atmel.com/products/pld/default.asp; ComponentLink2Description: Datasheet; ComponentLink2URL: http://www.atmel.com/dyn/resources/prod_documents/DOC0407.PDF; ComponentLink3Description: Atmel.com Home; ComponentLink3URL: http://www.atmel.com
footprint 28J_N (Leaded Chip Carrier, 28-Leads, Body 11.5x11.5mm, Pitch 1.27mm, IPC Medium Density)
footprint 28J_L (Leaded Chip Carrier, 28-Leads, Body 11.5x11.5mm, Pitch 1.27mm, IPC High Density)
footprint 28J_M (Leaded Chip Carrier, 28-Leads, Body 11.5x11.5mm, Pitch 1.27mm, IPC Low Density)
pins: 1 NC, 2 CLK/IN (in), 3 IN (in), 4 IN (in), 5 IN (in), 6 IN (in), 7 IN (in), 8 NC, 9 IN (in), 10 IN (in), 11 IN (in), 12 IN (in), 13 IN (in), 14 GND (power), 15 NC, 16 IN/~{OE} (in), 17 IN (in), 18 I/O (io), 19 I/O (io), 20 I/O (io), 21 I/O (io), 22 NC, 23 I/O (io), 24 I/O (io), 25 I/O (io), 26 I/O (io), 27 IN (in), 28 VCC (power)

## ATF20V8B-15JI
designator U?
ATF20V8B 5.0V Industry Standard SPLD, 28-lead PLCC, Speed Grade 15, Industrial Grade; Note: Pins 1, 8, 15 and 22 are not internally connected.; Published: 24-Nov-2000; LatestRevisionDate: 13-Apr-2006; LatestRevisionNote: IPC-7351 Footprint Added.; DatasheetVersion: Rev. 0407G-06/99; PackageVersion: 1993; PackageReference: 28J; Publisher: Altium Limited; PackageDescription: 28-Pin Leaded Chip Carrier 1.27 mm Pitch; Supplier 1: Digi-Key; Supplier Part Number 1: ATF20V8B-15JI-ND; Supplier 2: Mouser; Supplier Part Number 2: 556-ATF20V8B-15JI; Code_JEDEC: MS-018-AB; Code_IPC: PLCC-28; ComponentLink1Description: Manufacturer Link; ComponentLink1URL: http://www.atmel.com/products/pld/default.asp; ComponentLink2Description: Datasheet; ComponentLink2URL: http://www.atmel.com/dyn/resources/prod_documents/DOC0407.PDF; ComponentLink3Description: Atmel.com Home; ComponentLink3URL: http://www.atmel.com
footprint 28J_N (Leaded Chip Carrier, 28-Leads, Body 11.5x11.5mm, Pitch 1.27mm, IPC Medium Density)
footprint 28J_L (Leaded Chip Carrier, 28-Leads, Body 11.5x11.5mm, Pitch 1.27mm, IPC High Density)
footprint 28J_M (Leaded Chip Carrier, 28-Leads, Body 11.5x11.5mm, Pitch 1.27mm, IPC Low Density)
pins: 1 NC, 2 CLK/IN (in), 3 IN (in), 4 IN (in), 5 IN (in), 6 IN (in), 7 IN (in), 8 NC, 9 IN (in), 10 IN (in), 11 IN (in), 12 IN (in), 13 IN (in), 14 GND (power), 15 NC, 16 IN/~{OE} (in), 17 IN (in), 18 I/O (io), 19 I/O (io), 20 I/O (io), 21 I/O (io), 22 NC, 23 I/O (io), 24 I/O (io), 25 I/O (io), 26 I/O (io), 27 IN (in), 28 VCC (power)

## ATF20V8B-15PC
designator U?
ATF20V8B 5.0V Industry Standard SPLD, 24-lead PDIP, Speed Grade 15, Commercial Grade; Published: 24-Nov-2000; LatestRevisionDate: 04-Mar-2005; LatestRevisionNote: Stylized 3D Model Added.; DatasheetVersion: Rev. 0407G-06/99; PackageVersion: 1993; PackageReference: 24P3; Publisher: Altium Limited; PackageDescription: DIP, 24-Pin, Row Spacing 7.62 mm, Pitch 2.54 mm; Supplier 1: Digi-Key; Supplier Part Number 1: ATF20V8B-15PC-ND; Supplier 2: Mouser; Supplier Part Number 2: 556-ATF20V8B-15PC; Code_JEDEC: MS-001-AF; ComponentLink1Description: Manufacturer Link; ComponentLink1URL: http://www.atmel.com/products/pld/default.asp; ComponentLink2Description: Datasheet; ComponentLink2URL: http://www.atmel.com/dyn/resources/prod_documents/DOC0407.PDF; ComponentLink3Description: Atmel.com Home; ComponentLink3URL: http://www.atmel.com
footprint 24P3 (DIP, 24-Leads, Row Spacing 7.62mm, Pitch 2.54mm, Body 32x6.56mm)
pins: 1 CLK/IN (in), 2 IN (in), 3 IN (in), 4 IN (in), 5 IN (in), 6 IN (in), 7 IN (in), 8 IN (in), 9 IN (in), 10 IN (in), 11 IN (in), 12 GND (power), 13 IN/~{OE} (in), 14 IN (in), 15 I/O (io), 16 I/O (io), 17 I/O (io), 18 I/O (io), 19 I/O (io), 20 I/O (io), 21 I/O (io), 22 I/O (io), 23 IN (in), 24 VCC (power)

## ATF20V8B-15PI
designator U?
ATF20V8B 5.0V Industry Standard SPLD, 24-lead PDIP, Speed Grade 15, Industrial Grade; Published: 24-Nov-2000; LatestRevisionDate: 04-Mar-2005; LatestRevisionNote: Stylized 3D Model Added.; DatasheetVersion: Rev. 0407G-06/99; PackageVersion: 1993; PackageReference: 24P3; Publisher: Altium Limited; PackageDescription: DIP, 24-Pin, Row Spacing 7.62 mm, Pitch 2.54 mm; Supplier 1: Digi-Key; Supplier Part Number 1: ATF20V8B-15PI-ND; Supplier 2: Mouser; Supplier Part Number 2: 556-ATF20V8B-15PI; Code_JEDEC: MS-001-AF; ComponentLink1Description: Manufacturer Link; ComponentLink1URL: http://www.atmel.com/products/pld/default.asp; ComponentLink2Description: Datasheet; ComponentLink2URL: http://www.atmel.com/dyn/resources/prod_documents/DOC0407.PDF; ComponentLink3Description: Atmel.com Home; ComponentLink3URL: http://www.atmel.com
footprint 24P3 (DIP, 24-Leads, Row Spacing 7.62mm, Pitch 2.54mm, Body 32x6.56mm)
pins: 1 CLK/IN (in), 2 IN (in), 3 IN (in), 4 IN (in), 5 IN (in), 6 IN (in), 7 IN (in), 8 IN (in), 9 IN (in), 10 IN (in), 11 IN (in), 12 GND (power), 13 IN/~{OE} (in), 14 IN (in), 15 I/O (io), 16 I/O (io), 17 I/O (io), 18 I/O (io), 19 I/O (io), 20 I/O (io), 21 I/O (io), 22 I/O (io), 23 IN (in), 24 VCC (power)

## ATF20V8B-15SC
designator U?
ATF20V8B 5.0V Industry Standard SPLD, 24-lead SOIC, Speed Grade 15, Commercial Grade; Published: 24-Nov-2000; LatestRevisionDate: 13-Apr-2006; LatestRevisionNote: IPC-7351 Footprint Added.; DatasheetVersion: Rev. 0407G-06/99; PackageVersion: 1993; PackageReference: 24S; Publisher: Altium Limited; PackageDescription: 24-Pin Small Outline Integrated Circuit 1.27 mm Pitch; Supplier 1: Digi-Key; Supplier Part Number 1: ATF20V8B-15SC-ND; Supplier 2: Mouser; Supplier Part Number 2: 556-AF20V8B15SC; ComponentLink1Description: Manufacturer Link; ComponentLink1URL: http://www.atmel.com/products/pld/default.asp; ComponentLink2Description: Datasheet; ComponentLink2URL: http://www.atmel.com/dyn/resources/prod_documents/DOC0407.PDF; ComponentLink3Description: Atmel.com Home; ComponentLink3URL: http://www.atmel.com
footprint 24S_N (SOIC, 24-Leads, Body 15.4x7.5mm, Pitch 1.27mm, IPC Medium Density)
footprint 24S_L (SOIC, 24-Leads, Body 15.4x7.5mm, Pitch 1.27mm, IPC High Density)
footprint 24S_M (SOIC, 24-Leads, Body 15.4x7.5mm, Pitch 1.27mm, IPC Low Density)
pins: 1 CLK/IN (in), 2 IN (in), 3 IN (in), 4 IN (in), 5 IN (in), 6 IN (in), 7 IN (in), 8 IN (in), 9 IN (in), 10 IN (in), 11 IN (in), 12 GND (power), 13 IN/~{OE} (in), 14 IN (in), 15 I/O (io), 16 I/O (io), 17 I/O (io), 18 I/O (io), 19 I/O (io), 20 I/O (io), 21 I/O (io), 22 I/O (io), 23 IN (in), 24 VCC (power)

## ATF20V8B-15SI
designator U?
ATF20V8B 5.0V Industry Standard SPLD, 24-lead SOIC, Speed Grade 15, Industrial Grade; Published: 24-Nov-2000; LatestRevisionDate: 13-Apr-2006; LatestRevisionNote: IPC-7351 Footprint Added.; DatasheetVersion: Rev. 0407G-06/99; PackageVersion: 1993; PackageReference: 24S; Publisher: Altium Limited; PackageDescription: 24-Pin Small Outline Integrated Circuit 1.27 mm Pitch; Supplier 1: Digi-Key; Supplier Part Number 1: ATF20V8B-15SI-ND; Supplier 2: Mouser; Supplier Part Number 2: 556-ATF20V8B-15SI; ComponentLink1Description: Manufacturer Link; ComponentLink1URL: http://www.atmel.com/products/pld/default.asp; ComponentLink2Description: Datasheet; ComponentLink2URL: http://www.atmel.com/dyn/resources/prod_documents/DOC0407.PDF; ComponentLink3Description: Atmel.com Home; ComponentLink3URL: http://www.atmel.com
footprint 24S_N (SOIC, 24-Leads, Body 15.4x7.5mm, Pitch 1.27mm, IPC Medium Density)
footprint 24S_L (SOIC, 24-Leads, Body 15.4x7.5mm, Pitch 1.27mm, IPC High Density)
footprint 24S_M (SOIC, 24-Leads, Body 15.4x7.5mm, Pitch 1.27mm, IPC Low Density)
pins: 1 CLK/IN (in), 2 IN (in), 3 IN (in), 4 IN (in), 5 IN (in), 6 IN (in), 7 IN (in), 8 IN (in), 9 IN (in), 10 IN (in), 11 IN (in), 12 GND (power), 13 IN/~{OE} (in), 14 IN (in), 15 I/O (io), 16 I/O (io), 17 I/O (io), 18 I/O (io), 19 I/O (io), 20 I/O (io), 21 I/O (io), 22 I/O (io), 23 IN (in), 24 VCC (power)

## ATF20V8B-15XC
designator U?
ATF20V8B 5.0V Industry Standard SPLD, 24-lead TSSOP, Speed Grade 15, Commercial Grade; Published: 17-Dec-2003; LatestRevisionDate: 04-Mar-2005; LatestRevisionNote: Stylized 3D Model Added.; DatasheetVersion: Rev. 0407G-06/99; PackageVersion: revA, Apr-2001; PackageReference: 24X; Publisher: Altium Limited; PackageDescription: 24-Pin Thin Small Outline Package 0.65 mm Pitch; ComponentLink1Description: Manufacturer Link; ComponentLink1URL: http://www.atmel.com/products/pld/default.asp; ComponentLink2Description: Datasheet; ComponentLink2URL: http://www.atmel.com/dyn/resources/prod_documents/DOC0407.PDF; ComponentLink3Description: Atmel.com Home; ComponentLink3URL: http://www.atmel.com
footprint 24X_N (TSOP, 24-Leads, Body 7.8x4.4mm, Pitch 0.65mm, IPC Medium Density)
footprint 24X_L (TSOP, 24-Leads, Body 7.8x4.4mm, Pitch 0.65mm, IPC High Density)
footprint 24X_M (TSOP, 24-Leads, Body 7.8x4.4mm, Pitch 0.65mm, IPC Low Density)
pins: 1 CLK/IN (in), 2 IN (in), 3 IN (in), 4 IN (in), 5 IN (in), 6 IN (in), 7 IN (in), 8 IN (in), 9 IN (in), 10 IN (in), 11 IN (in), 12 GND (power), 13 IN/~{OE} (in), 14 IN (in), 15 I/O (io), 16 I/O (io), 17 I/O (io), 18 I/O (io), 19 I/O (io), 20 I/O (io), 21 I/O (io), 22 I/O (io), 23 IN (in), 24 VCC (power)

## ATF20V8B-15XI
designator U?
ATF20V8B 5.0V Industry Standard SPLD, 24-lead TSSOP, Speed Grade 15, Industrial Grade; Published: 17-Dec-2003; LatestRevisionDate: 04-Mar-2005; LatestRevisionNote: Stylized 3D Model Added.; DatasheetVersion: Rev. 0407G-06/99; PackageVersion: revA, Apr-2001; PackageReference: 24X; Publisher: Altium Limited; PackageDescription: 24-Pin Thin Small Outline Package 0.65 mm Pitch; ComponentLink1Description: Manufacturer Link; ComponentLink1URL: http://www.atmel.com/products/pld/default.asp; ComponentLink2Description: Datasheet; ComponentLink2URL: http://www.atmel.com/dyn/resources/prod_documents/DOC0407.PDF; ComponentLink3Description: Atmel.com Home; ComponentLink3URL: http://www.atmel.com
footprint 24X_N (TSOP, 24-Leads, Body 7.8x4.4mm, Pitch 0.65mm, IPC Medium Density)
footprint 24X_L (TSOP, 24-Leads, Body 7.8x4.4mm, Pitch 0.65mm, IPC High Density)
footprint 24X_M (TSOP, 24-Leads, Body 7.8x4.4mm, Pitch 0.65mm, IPC Low Density)
pins: 1 CLK/IN (in), 2 IN (in), 3 IN (in), 4 IN (in), 5 IN (in), 6 IN (in), 7 IN (in), 8 IN (in), 9 IN (in), 10 IN (in), 11 IN (in), 12 GND (power), 13 IN/~{OE} (in), 14 IN (in), 15 I/O (io), 16 I/O (io), 17 I/O (io), 18 I/O (io), 19 I/O (io), 20 I/O (io), 21 I/O (io), 22 I/O (io), 23 IN (in), 24 VCC (power)

## ATF20V8BQ-10JC
designator U?
ATF20V8BQ 5.0V Industry Standard SPLD, 28-lead PLCC, Speed Grade 10, Commercial Grade; Note: Pins 1, 8, 15 and 22 are not internally connected.; Published: 24-Nov-2000; LatestRevisionDate: 13-Apr-2006; LatestRevisionNote: IPC-7351 Footprint Added.; DatasheetVersion: Rev. 0407G-06/99; PackageVersion: 1993; PackageReference: 28J; Publisher: Altium Limited; PackageDescription: 28-Pin Leaded Chip Carrier 1.27 mm Pitch; Supplier 1: Digi-Key; Supplier Part Number 1: ATF20V8BQ-10JC-ND; Supplier 2: Mouser; Supplier Part Number 2: 556-AF20V8BQ10JC; Code_JEDEC: MS-018-AB; Code_IPC: PLCC-28; ComponentLink1Description: Manufacturer Link; ComponentLink1URL: http://www.atmel.com/products/pld/default.asp; ComponentLink2Description: Datasheet; ComponentLink2URL: http://www.atmel.com/dyn/resources/prod_documents/DOC0407.PDF; ComponentLink3Description: Atmel.com Home; ComponentLink3URL: http://www.atmel.com
footprint 28J_N (Leaded Chip Carrier, 28-Leads, Body 11.5x11.5mm, Pitch 1.27mm, IPC Medium Density)
footprint 28J_L (Leaded Chip Carrier, 28-Leads, Body 11.5x11.5mm, Pitch 1.27mm, IPC High Density)
footprint 28J_M (Leaded Chip Carrier, 28-Leads, Body 11.5x11.5mm, Pitch 1.27mm, IPC Low Density)
pins: 1 NC, 2 CLK/IN (in), 3 IN (in), 4 IN (in), 5 IN (in), 6 IN (in), 7 IN (in), 8 NC, 9 IN (in), 10 IN (in), 11 IN (in), 12 IN (in), 13 IN (in), 14 GND (power), 15 NC, 16 IN/~{OE} (in), 17 IN (in), 18 I/O (io), 19 I/O (io), 20 I/O (io), 21 I/O (io), 22 NC, 23 I/O (io), 24 I/O (io), 25 I/O (io), 26 I/O (io), 27 IN (in), 28 VCC (power)

## ATF20V8BQ-10PC
designator U?
ATF20V8BQ 5.0V Industry Standard SPLD, 24-lead PDIP, Speed Grade 10, Commercial Grade; Published: 24-Nov-2000; LatestRevisionDate: 04-Mar-2005; LatestRevisionNote: Stylized 3D Model Added.; DatasheetVersion: Rev. 0407G-06/99; PackageVersion: 1993; PackageReference: 24P3; Publisher: Altium Limited; PackageDescription: DIP, 24-Pin, Row Spacing 7.62 mm, Pitch 2.54 mm; Supplier 1: Digi-Key; Supplier Part Number 1: ATF20V8BQ-10PC-ND; Supplier 2: Mouser; Supplier Part Number 2: 556-AF20V8BQ10PC; Code_JEDEC: MS-001-AF; ComponentLink1Description: Manufacturer Link; ComponentLink1URL: http://www.atmel.com/products/pld/default.asp; ComponentLink2Description: Datasheet; ComponentLink2URL: http://www.atmel.com/dyn/resources/prod_documents/DOC0407.PDF; ComponentLink3Description: Atmel.com Home; ComponentLink3URL: http://www.atmel.com
footprint 24P3 (DIP, 24-Leads, Row Spacing 7.62mm, Pitch 2.54mm, Body 32x6.56mm)
pins: 1 CLK/IN (in), 2 IN (in), 3 IN (in), 4 IN (in), 5 IN (in), 6 IN (in), 7 IN (in), 8 IN (in), 9 IN (in), 10 IN (in), 11 IN (in), 12 GND (power), 13 IN/~{OE} (in), 14 IN (in), 15 I/O (io), 16 I/O (io), 17 I/O (io), 18 I/O (io), 19 I/O (io), 20 I/O (io), 21 I/O (io), 22 I/O (io), 23 IN (in), 24 VCC (power)

## ATF20V8BQ-10XC
designator U?
ATF20V8BQ 5.0V Industry Standard SPLD, 24-lead TSSOP, Speed Grade 10, Commercial Grade; Published: 17-Dec-2003; LatestRevisionDate: 04-Mar-2005; LatestRevisionNote: Stylized 3D Model Added.; DatasheetVersion: Rev. 0407G-06/99; PackageVersion: revA, Apr-2001; PackageReference: 24X; Publisher: Altium Limited; PackageDescription: 24-Pin Thin Small Outline Package 0.65 mm Pitch; ComponentLink1Description: Manufacturer Link; ComponentLink1URL: http://www.atmel.com/products/pld/default.asp; ComponentLink2Description: Datasheet; ComponentLink2URL: http://www.atmel.com/dyn/resources/prod_documents/DOC0407.PDF; ComponentLink3Description: Atmel.com Home; ComponentLink3URL: http://www.atmel.com
footprint 24X_N (TSOP, 24-Leads, Body 7.8x4.4mm, Pitch 0.65mm, IPC Medium Density)
footprint 24X_L (TSOP, 24-Leads, Body 7.8x4.4mm, Pitch 0.65mm, IPC High Density)
footprint 24X_M (TSOP, 24-Leads, Body 7.8x4.4mm, Pitch 0.65mm, IPC Low Density)
pins: 1 CLK/IN (in), 2 IN (in), 3 IN (in), 4 IN (in), 5 IN (in), 6 IN (in), 7 IN (in), 8 IN (in), 9 IN (in), 10 IN (in), 11 IN (in), 12 GND (power), 13 IN/~{OE} (in), 14 IN (in), 15 I/O (io), 16 I/O (io), 17 I/O (io), 18 I/O (io), 19 I/O (io), 20 I/O (io), 21 I/O (io), 22 I/O (io), 23 IN (in), 24 VCC (power)

## ATF20V8BQL-15JC
designator U?
ATF20V8BQL 5.0V Industry Standard SPLD, 28-lead PLCC, Speed Grade 15, Commercial Grade; Note: Pins 1, 8, 15 and 22 are not internally connected.; Published: 24-Nov-2000; LatestRevisionDate: 13-Apr-2006; LatestRevisionNote: IPC-7351 Footprint Added.; DatasheetVersion: Rev. 0407G-06/99; PackageVersion: 1993; PackageReference: 28J; Publisher: Altium Limited; PackageDescription: 28-Pin Leaded Chip Carrier 1.27 mm Pitch; Supplier 1: Digi-Key; Supplier Part Number 1: ATF20V8BQL-15JC-ND; Supplier 2: Mouser; Supplier Part Number 2: 556-AF20V8BQL15JC; Code_JEDEC: MS-018-AB; Code_IPC: PLCC-28; ComponentLink1Description: Manufacturer Link; ComponentLink1URL: http://www.atmel.com/products/pld/default.asp; ComponentLink2Description: Datasheet; ComponentLink2URL: http://www.atmel.com/dyn/resources/prod_documents/DOC0407.PDF; ComponentLink3Description: Atmel.com Home; ComponentLink3URL: http://www.atmel.com
footprint 28J_N (Leaded Chip Carrier, 28-Leads, Body 11.5x11.5mm, Pitch 1.27mm, IPC Medium Density)
footprint 28J_L (Leaded Chip Carrier, 28-Leads, Body 11.5x11.5mm, Pitch 1.27mm, IPC High Density)
footprint 28J_M (Leaded Chip Carrier, 28-Leads, Body 11.5x11.5mm, Pitch 1.27mm, IPC Low Density)
pins: 1 NC, 2 CLK/IN (in), 3 IN (in), 4 IN (in), 5 IN (in), 6 IN (in), 7 IN (in), 8 NC, 9 IN (in), 10 IN (in), 11 IN (in), 12 IN (in), 13 IN (in), 14 GND (power), 15 NC, 16 IN/~{OE} (in), 17 IN (in), 18 I/O (io), 19 I/O (io), 20 I/O (io), 21 I/O (io), 22 NC, 23 I/O (io), 24 I/O (io), 25 I/O (io), 26 I/O (io), 27 IN (in), 28 VCC (power)

## ATF20V8BQL-15JI
designator U?
ATF20V8BQL 5.0V Industry Standard SPLD, 28-lead PLCC, Speed Grade 15, Industrial Grade; Note: Pins 1, 8, 15 and 22 are not internally connected.; Published: 24-Nov-2000; LatestRevisionDate: 13-Apr-2006; LatestRevisionNote: IPC-7351 Footprint Added.; DatasheetVersion: Rev. 0407G-06/99; PackageVersion: 1993; PackageReference: 28J; Publisher: Altium Limited; PackageDescription: 28-Pin Leaded Chip Carrier 1.27 mm Pitch; Supplier 1: Digi-Key; Supplier Part Number 1: ATF20V8BQL-15JI-ND; Supplier 2: Mouser; Supplier Part Number 2: 556-ATF20V8BQL-15JI; Code_JEDEC: MS-018-AB; Code_IPC: PLCC-28; ComponentLink1Description: Manufacturer Link; ComponentLink1URL: http://www.atmel.com/products/pld/default.asp; ComponentLink2Description: Datasheet; ComponentLink2URL: http://www.atmel.com/dyn/resources/prod_documents/DOC0407.PDF; ComponentLink3Description: Atmel.com Home; ComponentLink3URL: http://www.atmel.com
footprint 28J_N (Leaded Chip Carrier, 28-Leads, Body 11.5x11.5mm, Pitch 1.27mm, IPC Medium Density)
footprint 28J_L (Leaded Chip Carrier, 28-Leads, Body 11.5x11.5mm, Pitch 1.27mm, IPC High Density)
footprint 28J_M (Leaded Chip Carrier, 28-Leads, Body 11.5x11.5mm, Pitch 1.27mm, IPC Low Density)
pins: 1 NC, 2 CLK/IN (in), 3 IN (in), 4 IN (in), 5 IN (in), 6 IN (in), 7 IN (in), 8 NC, 9 IN (in), 10 IN (in), 11 IN (in), 12 IN (in), 13 IN (in), 14 GND (power), 15 NC, 16 IN/~{OE} (in), 17 IN (in), 18 I/O (io), 19 I/O (io), 20 I/O (io), 21 I/O (io), 22 NC, 23 I/O (io), 24 I/O (io), 25 I/O (io), 26 I/O (io), 27 IN (in), 28 VCC (power)

## ATF20V8BQL-15PC
designator U?
ATF20V8BQL 5.0V Industry Standard SPLD, 24-lead PDIP, Speed Grade 15, Commercial Grade; Published: 24-Nov-2000; LatestRevisionDate: 04-Mar-2005; LatestRevisionNote: Stylized 3D Model Added.; DatasheetVersion: Rev. 0407G-06/99; PackageVersion: 1993; PackageReference: 24P3; Publisher: Altium Limited; PackageDescription: DIP, 24-Pin, Row Spacing 7.62 mm, Pitch 2.54 mm; Supplier 1: Digi-Key; Supplier Part Number 1: ATF20V8BQL-15PC-ND; Supplier 2: Mouser; Supplier Part Number 2: 556-AF20V8BQL15PC; Code_JEDEC: MS-001-AF; ComponentLink1Description: Manufacturer Link; ComponentLink1URL: http://www.atmel.com/products/pld/default.asp; ComponentLink2Description: Datasheet; ComponentLink2URL: http://www.atmel.com/dyn/resources/prod_documents/DOC0407.PDF; ComponentLink3Description: Atmel.com Home; ComponentLink3URL: http://www.atmel.com
footprint 24P3 (DIP, 24-Leads, Row Spacing 7.62mm, Pitch 2.54mm, Body 32x6.56mm)
pins: 1 CLK/IN (in), 2 IN (in), 3 IN (in), 4 IN (in), 5 IN (in), 6 IN (in), 7 IN (in), 8 IN (in), 9 IN (in), 10 IN (in), 11 IN (in), 12 GND (power), 13 IN/~{OE} (in), 14 IN (in), 15 I/O (io), 16 I/O (io), 17 I/O (io), 18 I/O (io), 19 I/O (io), 20 I/O (io), 21 I/O (io), 22 I/O (io), 23 IN (in), 24 VCC (power)

## ATF20V8BQL-15PI
designator U?
ATF20V8BQL 5.0V Industry Standard SPLD, 24-lead PDIP, Speed Grade 15, Industrial Grade; Published: 24-Nov-2000; LatestRevisionDate: 04-Mar-2005; LatestRevisionNote: Stylized 3D Model Added.; DatasheetVersion: Rev. 0407G-06/99; PackageVersion: 1993; PackageReference: 24P3; Publisher: Altium Limited; PackageDescription: DIP, 24-Pin, Row Spacing 7.62 mm, Pitch 2.54 mm; Supplier 1: Digi-Key; Supplier Part Number 1: ATF20V8BQL-15PI-ND; Supplier 2: Mouser; Supplier Part Number 2: 556-ATF20V8BQL-15PI; Code_JEDEC: MS-001-AF; ComponentLink1Description: Manufacturer Link; ComponentLink1URL: http://www.atmel.com/products/pld/default.asp; ComponentLink2Description: Datasheet; ComponentLink2URL: http://www.atmel.com/dyn/resources/prod_documents/DOC0407.PDF; ComponentLink3Description: Atmel.com Home; ComponentLink3URL: http://www.atmel.com
footprint 24P3 (DIP, 24-Leads, Row Spacing 7.62mm, Pitch 2.54mm, Body 32x6.56mm)
pins: 1 CLK/IN (in), 2 IN (in), 3 IN (in), 4 IN (in), 5 IN (in), 6 IN (in), 7 IN (in), 8 IN (in), 9 IN (in), 10 IN (in), 11 IN (in), 12 GND (power), 13 IN/~{OE} (in), 14 IN (in), 15 I/O (io), 16 I/O (io), 17 I/O (io), 18 I/O (io), 19 I/O (io), 20 I/O (io), 21 I/O (io), 22 I/O (io), 23 IN (in), 24 VCC (power)